# Altium footprint library SparkFun-IC-Comms.PCBLIB: 25 footprints (part 1 of 2)
Each footprint in its own frame and in the unit in brackets; x right, y up, seen from the top. Pads: shape width x height; smd on the part's side, far side on the other; paste and mask are expansions set on the pad; w line width, h text height; cw(c..) or ccw(c..) is an arc to the next point about the centre after c.
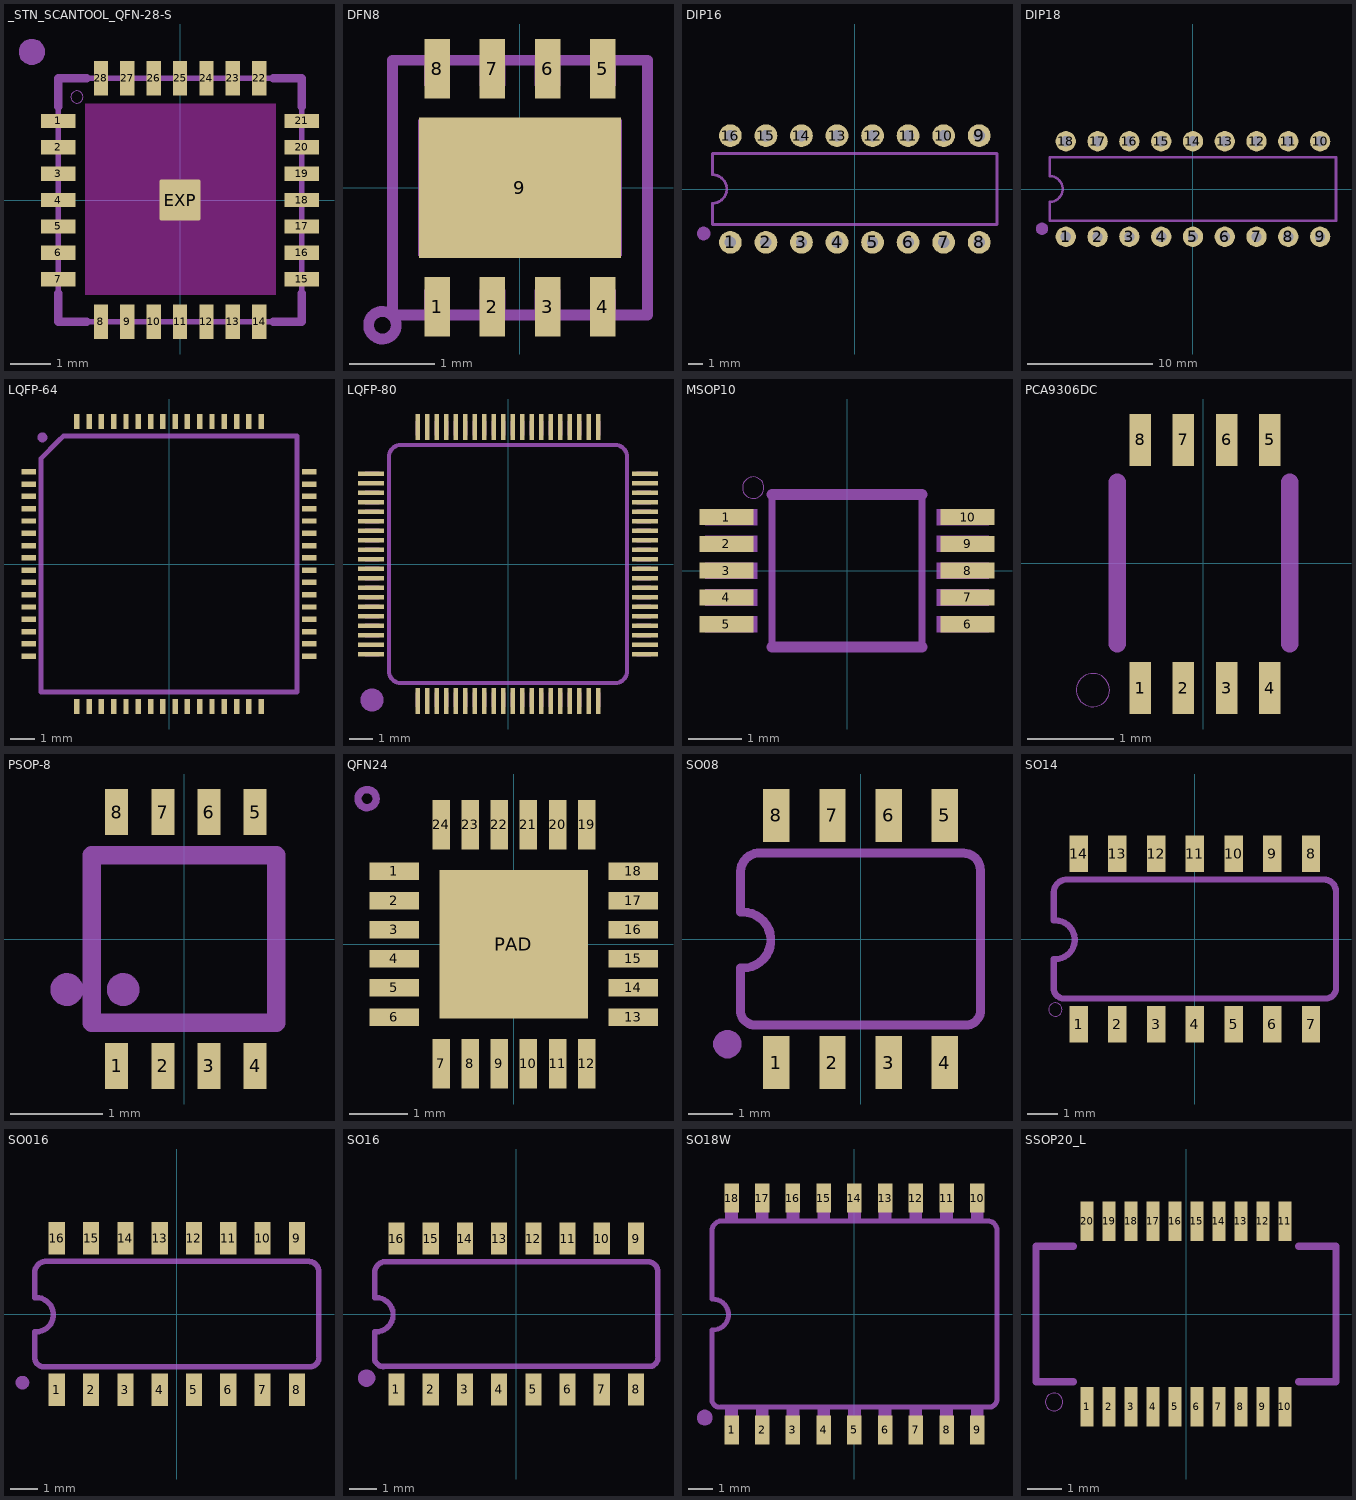
[diagram p0: the footprints below, top view; thin cyan lines are the x and y axes]

## _STN_SCANTOOL_QFN-28-S [mm]
pads (29):
  rect 0.85x0.35 smd: 1(-3,1.95) 2(-3,1.3) 3(-3,0.65) 4(-3,0) 5(-3,-0.65) 6(-3,-1.3) 7(-3,-1.95) 15(3,-1.95) 16(3,-1.3) 17(3,-0.65) 18(3,0) 19(3,0.65) 20(3,1.3) 21(3,1.95)
  rect 0.35x0.85 smd: 8(-1.95,-3) 9(-1.3,-3) 10(-0.65,-3) 11(0,-3) 12(0.65,-3) 13(1.3,-3) 14(1.95,-3) 22(1.95,3) 23(1.3,3) 24(0.65,3) 25(0,3) 26(-0.65,3) 27(-1.3,3) 28(-1.95,3)
  rrect5% 1x1 smd paste+0: EXP(0,0)
Top keep-out:
  region: -2.34,-2.33 -2.34,2.37 2.36,2.37 2.36,-2.33
Top Paste:
  region: -0.501,-0.501 -0.501,0.499 0.499,0.499 0.499,-0.501
tDocu:
  lines w0.13: -3,-3 3,-3 3,3 -3,3 -3,-3
tPlace:
  circle w0: c-2.54,2.54 r0.15
  region: -3.651,3.334 -3.588,3.334 -3.471,3.382 -3.382,3.471 -3.334,3.588 -3.334,3.651 -3.334,3.714 -3.382,3.831 -3.471,3.92 -3.588,3.969 -3.651,3.969 -3.714,3.969 -3.831,3.92 -3.92,3.831 -3.969,3.714 -3.969,3.651 -3.969,3.588 -3.92,3.471 -3.831,3.382 -3.714,3.334 -3.651,3.334
  lines w0.203: -3,-2.3 -3,-3 -2.3,-3 ; -3,2.3 -3,3 -2.3,3 ; 2.3,-3 3,-3 3,-2.3 ; 2.3,3 3,3 3,2.3

## DFN8 [mm]
pads (9):
  rect 0.3x0.7 smd paste+0: 1(-0.975,-1.4) 2(-0.325,-1.4) 3(0.325,-1.4) 4(0.975,-1.4) 5(0.975,1.4) 6(0.325,1.4) 7(-0.325,1.4) 8(-0.975,1.4)
  rect 2.38x1.65 smd paste+0: 9(0,0)
Top Paste:
  region: -1.08,-1.645 -1.08,-1.155 -0.87,-1.155 -0.87,-1.645
  region: -0.43,-1.645 -0.43,-1.155 -0.22,-1.155 -0.22,-1.645
  region: 0.22,-1.645 0.22,-1.155 0.43,-1.155 0.43,-1.645
  region: 0.87,-1.645 0.87,-1.155 1.08,-1.155 1.08,-1.645
  region: -1.08,1.155 -1.08,1.645 -0.87,1.645 -0.87,1.155
  region: -0.43,1.155 -0.43,1.645 -0.22,1.645 -0.22,1.155
  region: 0.22,1.155 0.22,1.645 0.43,1.645 0.43,1.155
  region: 0.87,1.155 0.87,1.645 1.08,1.645 1.08,1.155
  region: -0.6,-0.3 -0.6,0.3 0.6,0.3 0.6,-0.3
tDocu:
  region: 0.175,1.2 0.175,1.5 0.475,1.5 0.475,1.2
  region: -1.125,1.2 -1.125,1.5 -0.825,1.5 -0.825,1.2
  region: -0.475,1.2 -0.475,1.5 -0.175,1.5 -0.175,1.2
  region: 0.825,1.2 0.825,1.5 1.125,1.5 1.125,1.2
  region: 0.475,-1.2 0.475,-1.5 0.175,-1.5 0.175,-1.2
  region: -0.825,-1.2 -0.825,-1.5 -1.125,-1.5 -1.125,-1.2
  region: -0.175,-1.2 -0.175,-1.5 -0.475,-1.5 -0.475,-1.2
  region: 1.125,-1.2 1.125,-1.5 0.825,-1.5 0.825,-1.2
  region: -1.2,-0.8 -1.2,0.8 1.2,0.8 1.2,-0.8
  lines w0.127: -1.5,-1.5 1.5,-1.5 1.5,1.5 -1.5,1.5 -1.5,-1.5
tPlace:
  circle w0.127: c-1.619,-1.619 r0.162
  lines w0.127: -1.25,-1.5 -1.5,-1.5 -1.5,1.5 -1.25,1.5 ; 1.25,-1.5 1.5,-1.5 1.5,1.5 1.25,1.5

## DIP16 [mil]
pads (16):
  round 64 hole 32: 1(-350,-150) 2(-250,-150) 3(-150,-150) 4(-50,-150) 5(50,-150) 6(150,-150) 7(250,-150) 8(350,-150) 9(350,150) 10(250,150) 11(150,150) 12(50,150) 13(-50,150) 14(-150,150) 15(-250,150) 16(-350,150)
tPlace:
  region: -443.75,-125 -443.75,-121.27 -440.9,-114.38 -435.62,-109.1 -428.73,-106.25 -425,-106.25 -421.27,-106.25 -414.38,-109.1 -409.1,-114.38 -406.25,-121.27 -406.25,-125 -406.25,-128.73 -409.1,-135.62 -414.38,-140.9 -421.27,-143.75 -425,-143.75 -428.73,-143.75 -435.62,-140.9 -440.9,-135.62 -443.75,-128.73 -443.75,-125
  lines w8: -400,-100 400,-100 400,100 -400,100 -400,40 cw(c-400,0) -400,-40 -400,-100

## DIP18 [mil]
pads (18):
  round 64 hole 32: 1(-400,-150) 2(-300,-150) 3(-200,-150) 4(-100,-150) 5(0,-150) 6(100,-150) 7(200,-150) 8(300,-150) 9(400,-150) 10(400,150) 11(300,150) 12(200,150) 13(100,150) 14(0,150) 15(-100,150) 16(-200,150) 17(-300,150) 18(-400,150)
tPlace:
  region: -493.75,-125 -493.75,-121.27 -490.9,-114.38 -485.62,-109.1 -478.73,-106.25 -475,-106.25 -471.27,-106.25 -464.38,-109.1 -459.1,-114.38 -456.25,-121.27 -456.25,-125 -456.25,-128.73 -459.1,-135.62 -464.38,-140.9 -471.27,-143.75 -475,-143.75 -478.73,-143.75 -485.62,-140.9 -490.9,-135.62 -493.75,-128.73 -493.75,-125
  lines w8: -450,-100 450,-100 450,100 -450,100 -450,40 cw(c-450,0) -450,-40 -450,-100

## LQFP-64 [mm]
pads (64):
  rect 0.6x0.22 smd: 1(-5.7,3.75) 2(-5.7,3.25) 3(-5.7,2.75) 4(-5.7,2.25) 5(-5.7,1.75) 6(-5.7,1.25) 7(-5.7,0.75) 8(-5.7,0.25) 9(-5.7,-0.25) 10(-5.7,-0.75) 11(-5.7,-1.25) 12(-5.7,-1.75) 13(-5.7,-2.25) 14(-5.7,-2.75) 15(-5.7,-3.25) 16(-5.7,-3.75) 33(5.7,-3.75) 34(5.7,-3.25) 35(5.7,-2.75) 36(5.7,-2.25) 37(5.7,-1.75) 38(5.7,-1.25) 39(5.7,-0.75) 40(5.7,-0.25) 41(5.7,0.25) 42(5.7,0.75) 43(5.7,1.25) 44(5.7,1.75) 45(5.7,2.25) 46(5.7,2.75) 47(5.7,3.25) 48(5.7,3.75)
  rect 0.22x0.6 smd: 17(-3.75,-5.8) 18(-3.25,-5.8) 19(-2.75,-5.8) 20(-2.25,-5.8) 21(-1.75,-5.8) 22(-1.25,-5.8) 23(-0.75,-5.8) 24(-0.25,-5.8) 25(0.25,-5.8) 26(0.75,-5.8) 27(1.25,-5.8) 28(1.75,-5.8) 29(2.25,-5.8) 30(2.75,-5.8) 31(3.25,-5.8) 32(3.75,-5.8) 49(3.75,5.8) 50(3.25,5.8) 51(2.75,5.8) 52(2.25,5.8) 53(1.75,5.8) 54(1.25,5.8) 55(0.75,5.8) 56(0.25,5.8) 57(-0.25,5.8) 58(-0.75,5.8) 59(-1.25,5.8) 60(-1.75,5.8) 61(-2.25,5.8) 62(-2.75,5.8) 63(-3.25,5.8) 64(-3.75,5.8)
tPlace:
  circle w0.203: c-5.15,5.15 r0.1
  lines w0.203: -5.2,-5.2 5.2,-5.2 5.2,5.2 -4.3,5.2 -4.5,5 -5.2,4.3 -5.2,-5.2

## LQFP-80 [mm]
pads (80):
  rect 0.19x1.1 smd: 1(-3.8,-5.75) 2(-3.4,-5.75) 3(-3,-5.75) 4(-2.6,-5.75) 5(-2.2,-5.75) 6(-1.8,-5.75) 7(-1.4,-5.75) 8(-1,-5.75) 9(-0.6,-5.75) 10(-0.2,-5.75) 11(0.2,-5.75) 12(0.6,-5.75) 13(1,-5.75) 14(1.4,-5.75) 15(1.8,-5.75) 16(2.2,-5.75) 17(2.6,-5.75) 18(3,-5.75) 19(3.4,-5.75) 20(3.8,-5.75) 41(3.8,5.75) 42(3.4,5.75) 43(3,5.75) 44(2.6,5.75) 45(2.2,5.75) 46(1.8,5.75) 47(1.4,5.75) 48(1,5.75) 49(0.6,5.75) 50(0.2,5.75) 51(-0.2,5.75) 52(-0.6,5.75) 53(-1,5.75) 54(-1.4,5.75) 55(-1.8,5.75) 56(-2.2,5.75) 57(-2.6,5.75) 58(-3,5.75) 59(-3.4,5.75) 60(-3.8,5.75)
  rect 1.1x0.19 smd: 21(5.75,-3.8) 22(5.75,-3.4) 23(5.75,-3) 24(5.75,-2.6) 25(5.75,-2.2) 26(5.75,-1.8) 27(5.75,-1.4) 28(5.75,-1) 29(5.75,-0.6) 30(5.75,-0.2) 31(5.75,0.2) 32(5.75,0.6) 33(5.75,1) 34(5.75,1.4) 35(5.75,1.8) 36(5.75,2.2) 37(5.75,2.6) 38(5.75,3) 39(5.75,3.4) 40(5.75,3.8) 61(-5.75,3.8) 62(-5.75,3.4) 63(-5.75,3) 64(-5.75,2.6) 65(-5.75,2.2) 66(-5.75,1.8) 67(-5.75,1.4) 68(-5.75,1) 69(-5.75,0.6) 70(-5.75,0.2) 71(-5.75,-0.2) 72(-5.75,-0.6) 73(-5.75,-1) 74(-5.75,-1.4) 75(-5.75,-1.8) 76(-5.75,-2.2) 77(-5.75,-2.6) 78(-5.75,-3) 79(-5.75,-3.4) 80(-5.75,-3.8)
tDocu:
  drawing of 80 lines, arcs and shapes, not listed
tPlace:
  region: -6.191,-5.715 -6.191,-5.62 -6.119,-5.445 -5.985,-5.311 -5.81,-5.239 -5.715,-5.239 -5.62,-5.239 -5.445,-5.311 -5.311,-5.445 -5.239,-5.62 -5.239,-5.715 -5.239,-5.81 -5.311,-5.985 -5.445,-6.119 -5.62,-6.191 -5.715,-6.191 -5.81,-6.191 -5.985,-6.119 -6.119,-5.985 -6.191,-5.81 -6.191,-5.715
  lines w0.178: -5,-4.5 -5,4.5 cw(c-4.5,4.5) -4.5,5 4.5,5 cw(c4.5,4.5) 5,4.5 5,-4.5 cw(c4.5,-4.5) 4.5,-5 -4.5,-5 cw(c-4.5,-4.5) -5,-4.5

## MSOP10 [mm]
pads (10):
  rect 1x0.3 smd paste+0 mask+0: 1(-2.25,1) 2(-2.25,0.5) 3(-2.25,0) 4(-2.25,-0.5) 5(-2.25,-1) 6(2.25,-1) 7(2.25,-0.5) 8(2.25,0) 9(2.25,0.5) 10(2.25,1)
Top Paste:
  region: -2.7,1.125 -1.825,1.125 -1.825,0.875 -2.7,0.875
  region: -2.7,0.625 -1.825,0.625 -1.825,0.375 -2.7,0.375
  region: -2.7,0.125 -1.825,0.125 -1.825,-0.125 -2.7,-0.125
  region: -2.7,-0.375 -1.825,-0.375 -1.825,-0.625 -2.7,-0.625
  region: -2.7,-0.875 -1.825,-0.875 -1.825,-1.125 -2.7,-1.125
  region: 2.7,-1.125 1.825,-1.125 1.825,-0.875 2.7,-0.875
  region: 2.7,-0.625 1.825,-0.625 1.825,-0.375 2.7,-0.375
  region: 2.7,-0.125 1.825,-0.125 1.825,0.125 2.7,0.125
  region: 2.7,0.375 1.825,0.375 1.825,0.625 2.7,0.625
  region: 2.7,0.875 1.825,0.875 1.825,1.125 2.7,1.125
Top Solder:
  region: -2.8,1.2 -1.7,1.2 -1.7,0.8 -2.8,0.8
  region: -2.8,0.7 -1.7,0.7 -1.7,0.3 -2.8,0.3
  region: -2.8,0.2 -1.7,0.2 -1.7,-0.2 -2.8,-0.2
  region: -2.8,-0.3 -1.7,-0.3 -1.7,-0.7 -2.8,-0.7
  region: -2.8,-0.8 -1.7,-0.8 -1.7,-1.2 -2.8,-1.2
  region: 2.8,-1.2 1.7,-1.2 1.7,-0.8 2.8,-0.8
  region: 2.8,-0.7 1.7,-0.7 1.7,-0.3 2.8,-0.3
  region: 2.8,-0.2 1.7,-0.2 1.7,0.2 2.8,0.2
  region: 2.8,0.3 1.7,0.3 1.7,0.7 2.8,0.7
  region: 2.8,0.8 1.7,0.8 1.7,1.2 2.8,1.2
tDocu:
  region: -2.65,1.15 -1.675,1.15 -1.675,0.85 -2.65,0.85
  region: -2.65,0.65 -1.675,0.65 -1.675,0.35 -2.65,0.35
  region: -2.65,0.15 -1.675,0.15 -1.675,-0.15 -2.65,-0.15
  region: -2.65,-0.35 -1.675,-0.35 -1.675,-0.65 -2.65,-0.65
  region: -2.65,-0.85 -1.675,-0.85 -1.675,-1.15 -2.65,-1.15
  region: 2.65,-1.15 1.675,-1.15 1.675,-0.85 2.65,-0.85
  region: 2.65,-0.65 1.675,-0.65 1.675,-0.35 2.65,-0.35
  region: 2.65,-0.15 1.675,-0.15 1.675,0.15 2.65,0.15
  region: 2.65,0.35 1.675,0.35 1.675,0.65 2.65,0.65
  region: 2.65,0.85 1.675,0.85 1.675,1.15 2.65,1.15
  lines w0.127: -1.4,-1.425 -1.4,1.425 ; 1.4,-1.425 1.4,1.425
tPlace:
  circle w0: c-1.75,1.55 r0.2
  lines w0.203: -1.4,-1.425 1.4,-1.425 ; -1.4,1.425 1.4,1.425

## PCA9306DC [mm]
pads (8):
  rect 0.25x0.602 smd: 1(-0.73,-1.446) 2(-0.23,-1.446) 3(0.27,-1.446) 4(0.77,-1.446) 5(0.77,1.431) 6(0.27,1.431) 7(-0.23,1.431) 8(-0.73,1.431)
tPlace:
  circle w0: c-1.28,-1.47 r0.192
  lines w0.203: -1,-0.93 -1,0.94 ; 1,-0.93 1,0.94

## PSOP-8 [mm]
pads (8):
  rect 0.25x0.5 smd: 1(-0.73,-1.37) 2(-0.23,-1.37) 3(0.27,-1.37) 4(0.77,-1.37) 5(0.77,1.38) 6(0.27,1.38) 7(-0.23,1.38) 8(-0.73,1.38)
tPlace:
  circle w0.203: c-0.66,-0.543 r0.076
  circle w0.203: c-1.27,-0.543 r0.076
  lines w0.203: -1,-0.903 1,-0.903 1,0.913 -1,0.913 -1,-0.903

## QFN24 [mil]
pads (25):
  rect 33.46x11.81 smd paste+0: 1(-80.71,49.21) 2(-80.71,29.53) 3(-80.71,9.84) 4(-80.71,-9.84) 5(-80.71,-29.53) 6(-80.71,-49.21) 13(80.71,-49.21) 14(80.71,-29.53) 15(80.71,-9.84) 16(80.71,9.84) 17(80.71,29.53) 18(80.71,49.21)
  rect 11.81x33.46 smd paste+0: 7(-49.21,-80.71) 8(-29.53,-80.71) 9(-9.84,-80.71) 10(9.84,-80.71) 11(29.53,-80.71) 12(49.21,-80.71) 19(49.21,80.71) 20(29.53,80.71) 21(9.84,80.71) 22(-9.84,80.71) 23(-29.53,80.71) 24(-49.21,80.71)
  rect 100.39x100.39 smd paste+0: PAD(0,0)
Top Paste:
  region: -53.94,96.06 -44.49,96.06 -44.49,65.35 -53.94,65.35
  region: -34.25,96.06 -24.8,96.06 -24.8,65.35 -34.25,65.35
  region: -14.57,96.06 -5.12,96.06 -5.12,65.35 -14.57,65.35
  region: 5.12,96.06 14.57,96.06 14.57,65.35 5.12,65.35
  region: 24.8,96.06 34.25,96.06 34.25,65.35 24.8,65.35
  region: 44.49,96.06 53.94,96.06 53.94,65.35 44.49,65.35
  region: 96.06,53.94 96.06,44.49 65.35,44.49 65.35,53.94
  region: 96.06,34.25 96.06,24.8 65.35,24.8 65.35,34.25
  region: 96.06,14.57 96.06,5.12 65.35,5.12 65.35,14.57
  region: 96.06,-5.12 96.06,-14.57 65.35,-14.57 65.35,-5.12
  region: 96.06,-24.8 96.06,-34.25 65.35,-34.25 65.35,-24.8
  region: 96.06,-44.49 96.06,-53.94 65.35,-53.94 65.35,-44.49
  region: -96.06,-53.94 -96.06,-44.49 -65.35,-44.49 -65.35,-53.94
  region: -96.06,-34.25 -96.06,-24.8 -65.35,-24.8 -65.35,-34.25
  region: -96.06,-14.57 -96.06,-5.12 -65.35,-5.12 -65.35,-14.57
  region: -96.06,5.12 -96.06,14.57 -65.35,14.57 -65.35,5.12
  region: -96.06,24.8 -96.06,34.25 -65.35,34.25 -65.35,24.8
  region: -96.06,44.49 -96.06,53.94 -65.35,53.94 -65.35,44.49
  region: 53.94,-96.06 44.49,-96.06 44.49,-65.35 53.94,-65.35
  region: 34.25,-96.06 24.8,-96.06 24.8,-65.35 34.25,-65.35
  region: 14.57,-96.06 5.12,-96.06 5.12,-65.35 14.57,-65.35
  region: -5.12,-96.06 -14.57,-96.06 -14.57,-65.35 -5.12,-65.35
  region: -24.8,-96.06 -34.25,-96.06 -34.25,-65.35 -24.8,-65.35
  region: -44.49,-96.06 -53.94,-96.06 -53.94,-65.35 -44.49,-65.35
  region: -39.37,39.37 -9.84,39.37 -9.84,9.84 -39.37,9.84
  region: 39.37,39.37 9.84,39.37 9.84,9.84 39.37,9.84
  region: 39.37,-39.37 39.37,-9.84 9.84,-9.84 9.84,-39.37
  region: -39.37,-39.37 -39.37,-9.84 -9.84,-9.84 -9.84,-39.37
tPlace:
  circle w5: c-99.21,98.43 r6.12

## SO08 [mil]
pads (8):
  rect 23.62x47.24 smd: 1(-75,-110.24) 2(-25,-110.24) 3(25,-110.24) 4(75,-110.24) 5(75,110.24) 6(25,110.24) 7(-25,110.24) 8(-75,110.24)
tDocu:
  region: -85,-130 -85,-89.5 -65,-89.5 -65,-130
  region: -35,-130 -35,-89.5 -15,-89.5 -15,-130
  region: 15,-130 15,-89.5 35,-89.5 35,-130
  region: 65,-130 65,-89.5 85,-89.5 85,-130
  region: -35,90 -35,130 -15,130 -15,90
  region: 15,90 15,130 35,130 35,90
  region: 65,90 65,130 85,130 85,90
  region: -85,90 -85,130 -65,130 -65,90
tPlace:
  region: -106.25,-93.75 -106.25,-91.26 -108.15,-86.67 -111.67,-83.15 -116.26,-81.25 -118.75,-81.25 -121.24,-81.25 -125.83,-83.15 -129.35,-86.67 -131.25,-91.26 -131.25,-93.75 -131.25,-96.24 -129.35,-100.83 -125.83,-104.35 -121.24,-106.25 -118.75,-106.25 -116.26,-106.25 -111.67,-104.35 -108.15,-100.83 -106.25,-96.24 -106.25,-93.75
  lines w8: -107,-26 -107,-65.56 ccw(c-93.97,-63.6) -92,-76.63 95.94,-76.63 ccw(c93.97,-63.6) 107,-61.63 107,61.63 ccw(c92,61.63) 92,76.63 -92,76.63 ccw(c-90.03,59.66) -107,57.69 ; -107,24 -107,57.19 ; -105,-26 ccw(c-105,-1) -105,24

## SO14 [mil]
pads (14):
  rect 23.62x47.24 smd: 1(-150,-110.24) 2(-100,-110.24) 3(-50,-110.24) 4(0,-110.24) 5(50,-110.24) 6(100,-110.24) 7(150,-110.24) 8(150,110.24) 9(100,110.24) 10(50,110.24) 11(0,110.24) 12(-50,110.24) 13(-100,110.24) 14(-150,110.24)
tDocu:
  region: -160,-130 -160,-89.5 -140,-89.5 -140,-130
  region: -110,-130 -110,-89.5 -90,-89.5 -90,-130
  region: -60,-130 -60,-89.5 -40,-89.5 -40,-130
  region: -10,-130 -10,-89.5 10,-89.5 10,-130
  region: 40,-130 40,-89.5 60,-89.5 60,-130
  region: 90,-130 90,-89.5 110,-89.5 110,-130
  region: 140,-130 140,-89.5 160,-89.5 160,-130
  region: -160,90 -160,132.5 -140,132.5 -140,90
  region: -110,90 -110,130 -90,130 -90,90
  region: -60,90 -60,130 -40,130 -40,90
  region: -10,90 -10,130 10,130 10,90
  region: 40,90 40,130 60,130 60,90
  region: 90,90 90,130 110,130 110,90
  region: 140,90 140,130 160,130 160,90
tPlace:
  circle w0: c-180,-91 r8.6
  lines w8: -182,-26 -182,-65.56 ccw(c-168.97,-63.6) -167,-76.63 170.94,-76.63 ccw(c168.97,-63.6) 182,-61.63 182,61.63 ccw(c167,61.63) 167,76.63 -167,76.63 ccw(c-165.03,59.66) -182,57.69 ; -182,24 -182,57.19 ; -180,-26 ccw(c-180,-1) -180,24

## SO016 [mil]
pads (16):
  rect 23.62x47.24 smd: 1(-175,-110.24) 2(-125,-110.24) 3(-75,-110.24) 4(-25,-110.24) 5(25,-110.24) 6(75,-110.24) 7(125,-110.24) 8(175,-110.24) 9(175,110.24) 10(125,110.24) 11(75,110.24) 12(25,110.24) 13(-25,110.24) 14(-75,110.24) 15(-125,110.24) 16(-175,110.24)
tDocu:
  region: -185,-130 -185,-89.5 -165,-89.5 -165,-130
  region: -135,-130 -135,-89.5 -115,-89.5 -115,-130
  region: -85,-130 -85,-89.5 -65,-89.5 -65,-130
  region: -35,-130 -35,-89.5 -15,-89.5 -15,-130
  region: 15,-130 15,-89.5 35,-89.5 35,-130
  region: 65,-130 65,-89.5 85,-89.5 85,-130
  region: 115,-130 115,-89.5 135,-89.5 135,-130
  region: 165,-130 165,-89.5 185,-89.5 185,-130
  region: -185,90 -185,132.5 -165,132.5 -165,90
  region: -135,90 -135,130 -115,130 -115,90
  region: -85,90 -85,130 -65,130 -65,90
  region: -35,90 -35,130 -15,130 -15,90
  region: 15,90 15,130 35,130 35,90
  region: 65,90 65,130 85,130 85,90
  region: 115,90 115,130 135,130 135,90
  region: 165,90 165,130 185,130 185,90
tPlace:
  circle w10: c-225,-100 r5
  lines w8: -207,-26 -207,-65.56 ccw(c-193.97,-63.6) -192,-76.63 195.94,-76.63 ccw(c193.97,-63.6) 207,-61.63 207,61.63 ccw(c192,61.63) 192,76.63 -192,76.63 ccw(c-190.03,59.66) -207,57.69 ; -207,24 -207,57.19 ; -205,-26 ccw(c-205,-1) -205,24

## SO16 [mil]
pads (16):
  rect 23.62x47.24 smd: 1(-175,-110.24) 2(-125,-110.24) 3(-75,-110.24) 4(-25,-110.24) 5(25,-110.24) 6(75,-110.24) 7(125,-110.24) 8(175,-110.24) 9(175,110.24) 10(125,110.24) 11(75,110.24) 12(25,110.24) 13(-25,110.24) 14(-75,110.24) 15(-125,110.24) 16(-175,110.24)
tDocu:
  region: -185,-130 -185,-89.5 -165,-89.5 -165,-130
  region: -135,-130 -135,-89.5 -115,-89.5 -115,-130
  region: -85,-130 -85,-89.5 -65,-89.5 -65,-130
  region: -35,-130 -35,-89.5 -15,-89.5 -15,-130
  region: 15,-130 15,-89.5 35,-89.5 35,-130
  region: 65,-130 65,-89.5 85,-89.5 85,-130
  region: 115,-130 115,-89.5 135,-89.5 135,-130
  region: 165,-130 165,-89.5 185,-89.5 185,-130
  region: -135,90 -135,130 -115,130 -115,90
  region: -85,90 -85,130 -65,130 -65,90
  region: -35,90 -35,130 -15,130 -15,90
  region: 15,90 15,130 35,130 35,90
  region: 65,90 65,130 85,130 85,90
  region: 115,90 115,130 135,130 135,90
  region: 165,90 165,130 185,130 185,90
  region: -185,90 -185,130 -165,130 -165,90
tPlace:
  region: -206.25,-93.75 -206.25,-91.26 -208.15,-86.67 -211.67,-83.15 -216.26,-81.25 -218.75,-81.25 -221.24,-81.25 -225.83,-83.15 -229.35,-86.67 -231.25,-91.26 -231.25,-93.75 -231.25,-96.24 -229.35,-100.83 -225.83,-104.35 -221.24,-106.25 -218.75,-106.25 -216.26,-106.25 -211.67,-104.35 -208.15,-100.83 -206.25,-96.24 -206.25,-93.75
  lines w8: -207,-26 -207,-65.56 ccw(c-193.97,-63.6) -192,-76.63 195.94,-76.63 ccw(c193.97,-63.6) 207,-61.63 207,61.63 ccw(c192,61.63) 192,76.63 -192,76.63 ccw(c-190.03,59.66) -207,57.69 ; -207,24 -207,57.19 ; -205,-26 ccw(c-205,-1) -205,24

## SO18W [mil]
pads (18):
  rect 23.62x47.24 smd: 1(-200,-188.5) 2(-150,-188.5) 3(-100,-188.5) 4(-50,-188.5) 5(0,-188.5) 6(50,-188.5) 7(100,-188.5) 8(150,-188.5) 9(200,-188.5) 10(200,188.5) 11(150,188.5) 12(100,188.5) 13(50,188.5) 14(0,188.5) 15(-50,188.5) 16(-100,188.5) 17(-150,188.5) 18(-200,188.5)
tDocu:
  region: -210,155.63 -210,195.63 -190,195.63 -190,155.63
  region: -160,155.63 -160,195.63 -140,195.63 -140,155.63
  region: -110,155.63 -110,195.63 -90,195.63 -90,155.63
  region: -60,155.63 -60,195.63 -40,195.63 -40,155.63
  region: -10,155.63 -10,195.63 10,195.63 10,155.63
  region: 40,155.63 40,195.63 60,195.63 60,155.63
  region: 190,155.63 190,195.63 210,195.63 210,155.63
  region: 90,155.63 90,195.63 110,195.63 110,155.63
  region: 140,155.63 140,195.63 160,195.63 160,155.63
  region: -190,-155.63 -190,-195.63 -210,-195.63 -210,-155.63
  region: -140,-155.63 -140,-195.63 -160,-195.63 -160,-155.63
  region: -90,-155.63 -90,-195.63 -110,-195.63 -110,-155.63
  region: -40,-155.63 -40,-195.63 -60,-195.63 -60,-155.63
  region: 10,-155.63 10,-195.63 -10,-195.63 -10,-155.63
  region: 60,-155.63 60,-195.63 40,-195.63 40,-155.63
  region: 110,-155.63 110,-195.63 90,-195.63 90,-155.63
  region: 160,-155.63 160,-195.63 140,-195.63 140,-155.63
  region: 210,-155.63 210,-195.63 190,-195.63 190,-155.63
tPlace:
  region: -231.25,-168.75 -231.25,-166.26 -233.15,-161.67 -236.67,-158.15 -241.26,-156.25 -243.75,-156.25 -246.24,-156.25 -250.83,-158.15 -254.35,-161.67 -256.25,-166.26 -256.25,-168.75 -256.25,-171.24 -254.35,-175.83 -250.83,-179.35 -246.24,-181.25 -243.75,-181.25 -241.26,-181.25 -236.67,-179.35 -233.15,-175.83 -231.25,-171.24 -231.25,-168.75
  lines w8: -232,-26 -232,-140.56 ccw(c-218.97,-138.6) -217,-151.63 220.94,-151.63 ccw(c218.97,-138.6) 232,-136.63 232,136.63 ccw(c217,136.63) 217,151.63 -217,151.63 ccw(c-215.03,134.66) -232,132.69 ; -232,24 -232,132.19 ; -230,-26 ccw(c-230,-1) -230,24

## SSOP20_L [mil]
pads (20):
  rect 15x45 smd: 1(-112.5,-105.5) 2(-87.5,-105.5) 3(-62.5,-105.5) 4(-37.5,-105.5) 5(-12.5,-105.5) 6(12.5,-105.5) 7(37.5,-105.5) 8(62.5,-105.5) 9(87.5,-105.5) 10(112.5,-105.5) 11(112.5,105.5) 12(87.5,105.5) 13(62.5,105.5) 14(37.5,105.5) 15(12.5,105.5) 16(-12.5,105.5) 17(-37.5,105.5) 18(-62.5,105.5) 19(-87.5,105.5) 20(-112.5,105.5)
tDocu:
  region: 7.5,-117.5 7.5,-92.5 17.5,-92.5 17.5,-117.5
  region: 32.5,-117.5 32.5,-92.5 42.5,-92.5 42.5,-117.5
  region: 57.5,-117.5 57.5,-92.5 67.5,-92.5 67.5,-117.5
  region: 82.5,-117.5 82.5,-92.5 92.5,-92.5 92.5,-117.5
  region: 107.5,-117.5 107.5,-92.5 117.5,-92.5 117.5,-117.5
  region: -17.5,-117.5 -17.5,-92.5 -7.5,-92.5 -7.5,-117.5
  region: -42.5,-117.5 -42.5,-92.5 -32.5,-92.5 -32.5,-117.5
  region: -67.5,-117.5 -67.5,-92.5 -57.5,-92.5 -57.5,-117.5
  region: -92.5,-117.5 -92.5,-92.5 -82.5,-92.5 -82.5,-117.5
  region: -117.5,-117.5 -117.5,-92.5 -107.5,-92.5 -107.5,-117.5
  region: -7.5,117.5 -7.5,92.5 -17.5,92.5 -17.5,117.5
  region: -32.5,117.5 -32.5,92.5 -42.5,92.5 -42.5,117.5
  region: -57.5,117.5 -57.5,92.5 -67.5,92.5 -67.5,117.5
  region: -82.5,117.5 -82.5,92.5 -92.5,92.5 -92.5,117.5
  region: -107.5,117.5 -107.5,92.5 -117.5,92.5 -117.5,117.5
  region: 17.5,117.5 17.5,92.5 7.5,92.5 7.5,117.5
  region: 42.5,117.5 42.5,92.5 32.5,92.5 32.5,117.5
  region: 67.5,117.5 67.5,92.5 57.5,92.5 57.5,117.5
  region: 92.5,117.5 92.5,92.5 82.5,92.5 82.5,117.5
  region: 117.5,117.5 117.5,92.5 107.5,92.5 107.5,117.5
tPlace:
  circle w0: c-150,-100 r10
  lines w8: -128,-77 -170.5,-77 -170.5,77 -128,77 ; 128,-77 170.5,-77 170.5,77 128,77